# Altium schematic symbol library WallLightRemote.SCHLIB: 11 symbols
Pins are listed as number, name and electrical type; pins without a type are passive.

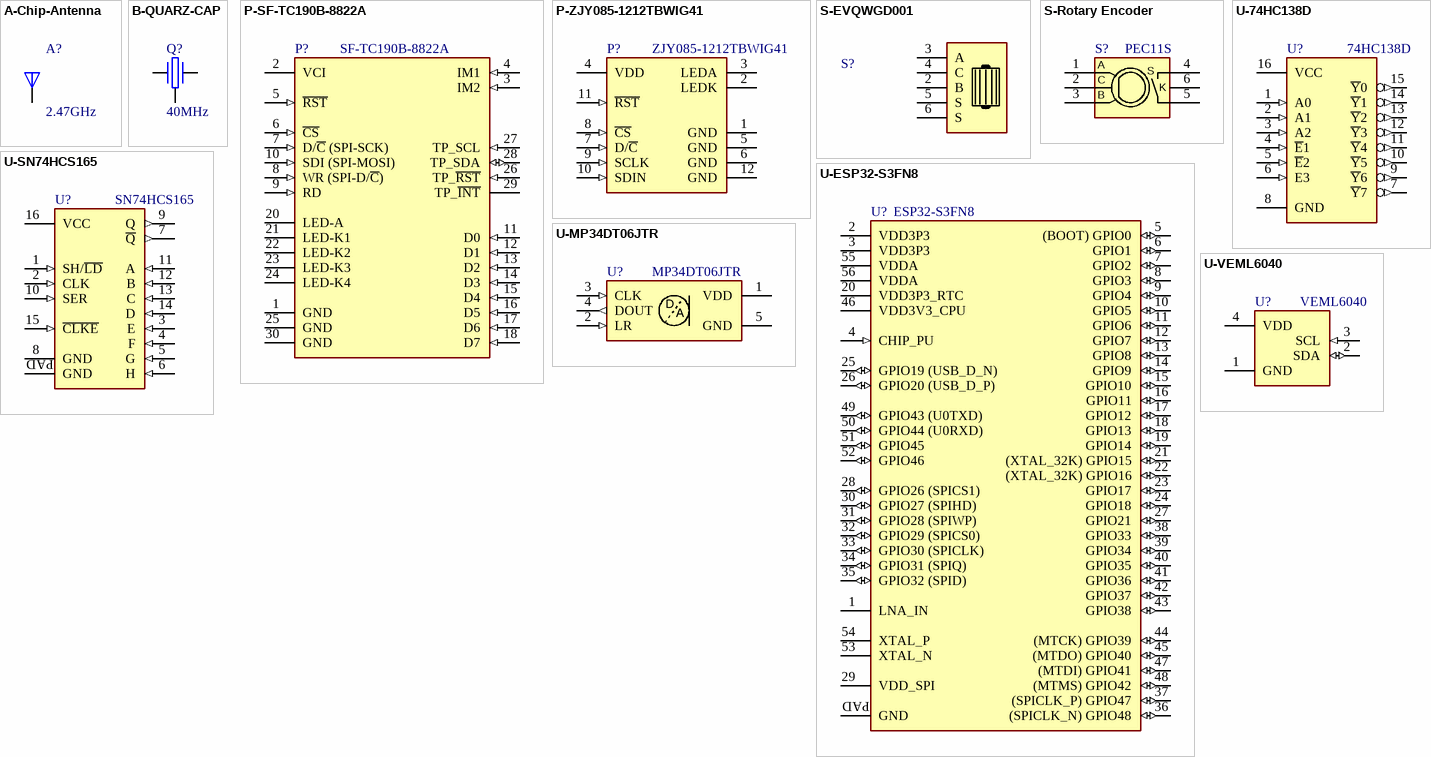
[diagram p0: symbols A-Chip-Antenna to U-VEML6040]

## A-Chip-Antenna
designator A?, comment 2.47GHz
Chip-Antenna; Component Value: SLDA72-2R470G-S1TF (2.47GHz); Digikey: 3442-SLDA72-2R470G-S1TFTR-ND; Component Description: Chip-Antenna; ComponentLink1Description: Datasheet; ComponentLink1URL: https://datasheet.lcsc.com/lcsc/2110081530_Sunlord-SLDA72-2R470G-S1TF_C370399.pdf; JLC-Parts: C370399; Unit Price: 0.20
pins: 1
2 alternate drawings of the same symbol

## B-QUARZ-CAP
designator Q?, comment 40MHz
Component Description: Crystal; Digikey: XC2730CT-ND; Farnell: 4059221; Mouser: 520-400-8-36Q-CWYT; ComponentLink1Description: Datasheet; ComponentLink1URL: https://ecsxtal.com/store/pdf/ECX-2236Q.pdf; Component Value: 40Mhz; JLC-Parts: C524681; Unit Price: 0.16
footprint SMD Crystal 3.2X2.5X0.8 (SMD_LED_RED)
pins: 1, 2, 3
2 alternate drawings of the same symbol

## P-SF-TC190B-8822A
designator P?, comment SF-TC190B-8822A
TFT-LCD 1.9" 170x320; Stückpreis: 4.20; Bauteilwert: SF-TC190B-8822A; Beschreibung: TFT-LCD 1.9" 170x320; ComponentLink2Description: Datasheet; ComponentLink2URL: https://www.midasdisplays.com/getattachment/8f320ce8-2a9c-403e-8681-7aa934dd4afb/specification
pins: 1 GND (power), 2 VCI (power), 3 IM2 (in), 4 IM1 (in), 5 ~{RST} (in), 6 ~{CS} (in), 7 D/~{C} (SPI-SCK) (in), 8 WR (SPI-D/~{C}) (in), 9 RD (in), 10 SDI (SPI-MOSI) (in), 11 D0 (in), 12 D1 (in), 13 D2 (in), 14 D3 (in), 15 D4 (in), 16 D5 (in), 17 D6 (in), 18 D7 (in), 19 NC hidden, 20 LED-A, 21 LED-K1, 22 LED-K2, 23 LED-K3, 24 LED-K4, 25 GND (power), 26 TP_~{RST} (in), 27 TP_SCL (in), 28 TP_SDA (io), 29 TP_~{INT} (oc), 30 GND (power)

## P-ZJY085-1212TBWIG41
designator P?, comment ZJY085-1212TBWIG41
TFT-LCD 0.85" 128x128; AliExpress: 1005004490846551; Stückpreis: 1.85; Bauteilwert: ZJY085-1212TBWIG41; Beschreibung: TFT-LCD 0.85" 128x128; ComponentLink2Description: Datasheet; ComponentLink2URL: https://cdn.hackaday.io/files/1881838051221472/SPEC%20ZJY085-1212TBWIG41.pdf
pins: 1 GND (power), 2 LEDK, 3 LEDA, 4 VDD (power), 5 GND (power), 6 GND (power), 7 D/~{C} (in), 8 ~{CS} (in), 9 SCLK (in), 10 SDIN (in), 11 ~{RST} (in), 12 GND (power)

## S-EVQWGD001
designator S?, comment EVQWGD001  (value not drawn)
Axial Roller Encoder; aliExpress: 1005004320540116; Component Description: Axial Roller Encoder; ComponentLink1Description: Datasheet; Component Value: EVQWGD001; Unit Price: 4.80
footprint THT Rotary Encoder with Switch
pins: 1 NC hidden, 2 B, 3 A, 4 C, 5 S, 6 S

## S-Rotary Encoder
designator S?, comment PEC11S
Rotary Encoder; Component Description: Rotary Encoder with Switch; Component Value: PEC11S-929K-S0015 (15PPR, 0.5mm); Digikey: PEC11S-929K-S0015-ND; Farnell: 2813728; Mouser: 652-PEC11S929K-S0015; Unit Price: 2.64
footprint SMD Rotary Encoder with Switch
pins: 1 A, 2 C, 3 B, 4 S, 5 S, 6 K

## U-74HC138D
designator U?, comment 74HC138D
3-to-8 Line Decoder (Inverting); ComponentLink1Description: Datasheet; ComponentLink1URL: https://datasheet.lcsc.com/lcsc/2211081800_JSMSEMI-74HC138D_C5205140.pdf; Digikey: 1727-2781-1-ND; Component Value: 74HC138D; Farnell: 1201320; JLC-Parts: C5205140; Mouser: 771-74HC138D-T; Unit Price: 0.10; Component Description: 3-to-8 Line Decoder (Inverting)
footprint SMD IC SOT-23-6 (SOT-223/SC-73; 4 Leads; Body 6.7 x 7.3 mm, inc. leads (LxW max))
pins: 1 A0 (in), 2 A1 (in), 3 A2 (in), 4 ~{E}1 (in), 5 ~{E}2 (in), 6 E3 (in), 7 ~{Y}7 (out), 8 GND (power), 9 ~{Y}6 (out), 10 ~{Y}5 (out), 11 ~{Y}4 (out), 12 ~{Y}3 (out), 13 ~{Y}2 (out), 14 ~{Y}1 (out), 15 ~{Y}0 (out), 16 VCC (power)

## U-ESP32-S3FN8
designator U?, comment ESP32-S3FN8
2.4 GHz Wi­Fi + Bluetooth® LE SoC; aliExpress: 1005004891428522; Mouser: 356-ESP32-S3FN8; ComponentLink1Description: Datasheet; ComponentLink1URL: https://www.mouser.ch/datasheet/2/891/esp32_s3_datasheet_en-2946743.pdf; Component Description: 2.4 GHz Wi­Fi + Bluetooth® LE SoC; Component Value: ESP32-S3FN8; Unit Price: 1.92
footprint SMD IC SOT-23-6 (SOT-223/SC-73; 4 Leads; Body 6.7 x 7.3 mm, inc. leads (LxW max))
pins: 1 LNA_IN, 2 VDD3P3 (power), 3 VDD3P3 (power), 4 CHIP_PU (in), 5 (BOOT) GPIO0 (io), 6 GPIO1 (io), 7 GPIO2 (io), 8 GPIO3 (io), 9 GPIO4 (io), 10 GPIO5 (io), 11 GPIO6 (io), 12 GPIO7 (io), 13 GPIO8 (io), 14 GPIO9 (io), 15 GPIO10 (io), 16 GPIO11 (io), 17 GPIO12 (io), 18 GPIO13 (io), 19 GPIO14 (io), 20 VDD3P3_RTC (power), 21 (XTAL_32K) GPIO15 (io), 22 (XTAL_32K) GPIO16 (io), 23 GPIO17 (io), 24 GPIO18 (io), 25 GPIO19 (USB_D_N) (io), 26 GPIO20 (USB_D_P) (io), 27 GPIO21 (io), 28 GPIO26 (SPICS1) (io), 29 VDD_SPI (power), 30 GPIO27 (SPIHD) (io), 31 GPIO28 (SPIWP) (io), 32 GPIO29 (SPICS0) (io), 33 GPIO30 (SPICLK) (io), 34 GPIO31 (SPIQ) (io), 35 GPIO32 (SPID) (io), 36 (SPICLK_N) GPIO48 (io), 37 (SPICLK_P) GPIO47 (io), 38 GPIO33 (io), 39 GPIO34 (io), 40 GPIO35 (io), 41 GPIO36 (io), 42 GPIO37 (io), 43 GPIO38 (io), 44 (MTCK) GPIO39 (io), 45 (MTDO) GPIO40 (io), 46 VDD3V3_CPU (power), 47 (MTDI) GPIO41 (io), 48 (MTMS) GPIO42 (io), 49 GPIO43 (U0TXD) (io), 50 GPIO44 (U0RXD) (io), 51 GPIO45 (io), 52 GPIO46 (io), 53 XTAL_N, 54 XTAL_P, 55 VDDA (power), 56 VDDA (power), PAD GND (power)

## U-MP34DT06JTR
designator U?, comment MP34DT06JTR
Digital PDM MEMS Microphone; Digikey: 497-18180-1-ND; Farnell: 2980885; Mouser: 511-MP34DT06JTR; ComponentLink1Description: Datasheet; ComponentLink1URL: https://datasheet.lcsc.com/lcsc/2004071606_STMicroelectronics-MP34DT06JTR_C503097.pdf; Component Description: Digital PDM MEMS Microphone; Component Value: MP34DT06JTR; JLC-Parts: C503097; Unit Price: 2.18
footprint SMD Microphone (SPH0645LM4H)
pins: 1 VDD (power), 2 LR (in), 3 CLK (in), 4 DOUT (out), 5 GND (power)
text: D; A

## U-SN74HCS165
designator U?, comment SN74HCS165
8-Bit Paralell-In Shift Register (Schmitt Trigger); ComponentLink1Description: Datasheet; ComponentLink1URL: https://www.ti.com/lit/ds/symlink/sn74hcs165.pdf; Digikey: 296-SN74HCS165BQBRDKR-ND; Component Value: SN74HCS165; JLC-Parts: C2866439; Mouser: 595-SN74HCS165BQBR; Unit Price: 0.43; Component Description: 8-Bit Paralell-In Shift Register (Schmitt Trigger)
footprint SMD IC SOT-23-6 (SOT-223/SC-73; 4 Leads; Body 6.7 x 7.3 mm, inc. leads (LxW max))
pins: 1 SH/~{LD} (in), 2 CLK (in), 3 E (in), 4 F (in), 5 G (in), 6 H (in), 7 ~{Q} (out), 8 GND (power), 9 Q (out), 10 SER (in), 11 A (in), 12 B (in), 13 C (in), 14 D (in), 15 ~{CLKE} (in), 16 VCC (power), PAD GND (power)

## U-VEML6040
designator U?, comment VEML6040
RGBW Color Sensor with I2C Interface; Digikey: VEML6040A3OGDKR-ND; Farnell: 2504135; Mouser: 78-VEML6040A3OG; ComponentLink1Description: Datasheet; ComponentLink1URL: file:///C:/Users/Admin/Downloads/VEML6040A3OG.pdf; Component Description: RGBW Color Sensor with I2C Interface; Component Value: VEML6040; JLC-Parts: C78465; Unit Price: 0.83
footprint SMD Microphone (SPH0645LM4H)
pins: 1 GND (power), 2 SDA (io), 3 SCL (in), 4 VDD (power)